# Altium footprint library Ceramic Capacitors.PcbLib: 8 footprints
Each footprint in its own frame and in the unit in brackets; x right, y up, seen from the top. Pads: shape width x height; smd on the part's side, far side on the other; paste and mask are expansions set on the pad; w line width, h text height; cw(c..) or ccw(c..) is an arc to the next point about the centre after c.
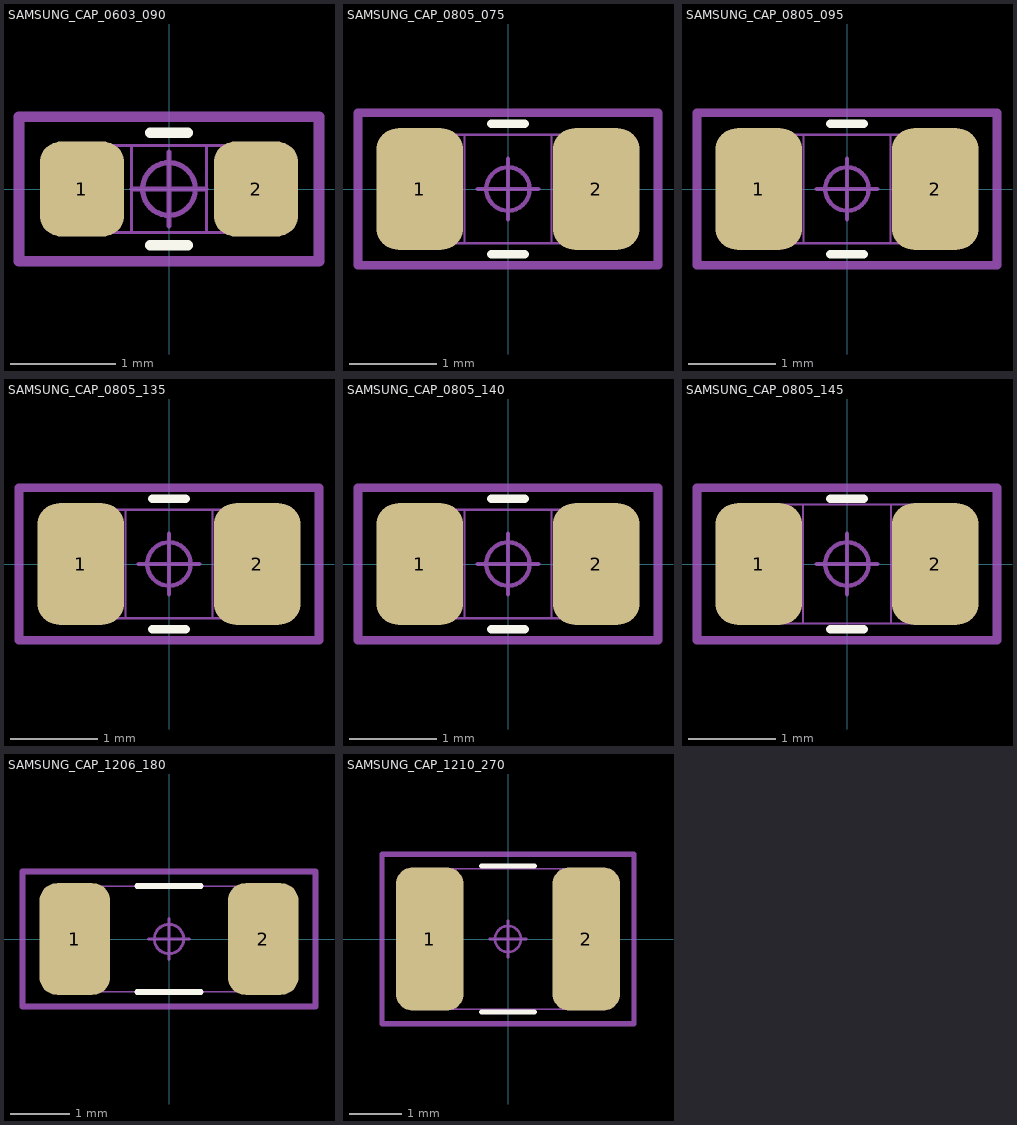
[diagram p0: the footprints below, top view; thin cyan lines are the x and y axes]

## SAMSUNG_CAP_0603_090 [mm]
pads (2):
  rrect50% 0.8x0.9 smd paste+0 mask+0.04: 1(-0.825,0) 2(0.825,0)
Top Overlay:
  lines w0.1: -0.178,-0.533 0.178,-0.533 ; -0.178,0.533 0.178,0.533
Mechanical 13:
  lines w0.025: -0.8,-0.412 0.8,-0.412 ; -0.8,-0.401 -0.8,0.412 0.8,0.412 0.8,-0.401 ; -0.356,-0.406 -0.356,0.406 ; 0.356,-0.406 0.356,0.406
Mechanical 15:
  circle w0.05: c0,0 r0.25
  lines w0.05: -0.35,0 0.35,0 ; 0,-0.35 0,0.35
  lines w0.1: -1.422,-0.686 -1.422,0.686 1.422,0.686 1.422,-0.686 -1.422,-0.686
3D body "CAP 0603.STEP": height 0.81, standoff -0.01, extent -0.8,-0.412 0.8,0.412

## SAMSUNG_CAP_0805_075 [mm]
pads (2):
  rrect50% 1x1.4 smd paste+0 mask+0.04: 1(-1.016,0) 2(1.016,0)
Top Overlay:
  lines w0.1: -0.192,-0.752 0.192,-0.752 ; -0.192,0.752 0.192,0.752
Mechanical 13:
  lines w0.025: -1,-0.625 -1,0.625 ; -1,-0.625 -0.5,-0.625 -0.5,0.625 -1,0.625 ; -1,-0.625 1,-0.625 ; -1,-0.625 -1,0.625 ; -1,0.625 1,0.625 ; 1,-0.625 0.5,-0.625 0.5,0.625 1,0.625 ; 1,-0.625 1,0.625 ; 1,-0.625 1,0.625
Mechanical 15:
  circle w0.05: c0,0 r0.25
  lines w0.05: -0.35,0 0.35,0 ; 0,-0.35 0,0.35
  lines w0.1: -1.727,-0.879 -1.727,0.879 1.727,0.879 1.727,-0.879 -1.727,-0.879
3D body "CAP_0805_075.step": height 0.76, standoff -0.01, extent -1,-0.639 1,0.635

## SAMSUNG_CAP_0805_095 [mm]
pads (2):
  rrect50% 1x1.4 smd paste+0 mask+0.04: 1(-1.016,0) 2(1.016,0)
Top Overlay:
  lines w0.1: -0.192,-0.752 0.192,-0.752 ; -0.192,0.752 0.192,0.752
Mechanical 13:
  lines w0.025: -1,-0.625 -1,0.625 ; -1,-0.625 1,-0.625 ; -1,-0.625 -0.5,-0.625 -0.5,0.625 -1,0.625 ; -1,-0.625 -1,0.625 ; -1,0.625 1,0.625 ; 1,-0.625 1,0.625 ; 1,-0.625 1,0.625 ; 1,-0.625 0.5,-0.625 0.5,0.625 1,0.625
Mechanical 15:
  circle w0.05: c0,0 r0.25
  lines w0.05: -0.35,0 0.35,0 ; 0,-0.35 0,0.35
  lines w0.1: -1.727,-0.879 1.727,-0.879 1.727,0.879 -1.727,0.879 -1.727,-0.879
3D body "CAP_0805_095.step": height 0.96, standoff -0.01, extent -1,-0.635 1,0.639

## SAMSUNG_CAP_0805_135 [mm]
pads (2):
  rrect50% 1x1.4 smd paste+0 mask+0.04: 1(-1.016,0) 2(1.016,0)
Top Overlay:
  lines w0.1: -0.192,-0.752 0.192,-0.752 ; -0.192,0.752 0.192,0.752
Mechanical 13:
  lines w0.025: -1,-0.625 -1,0.625 ; -1,-0.625 1,-0.625 ; -1,-0.625 -0.5,-0.625 -0.5,0.625 -1,0.625 ; -1,-0.625 -1,0.625 ; -1,0.625 1,0.625 ; 1,-0.625 1,0.625 ; 1,-0.625 1,0.625 ; 1,-0.625 0.5,-0.625 0.5,0.625 1,0.625
Mechanical 15:
  circle w0.05: c0,0 r0.25
  lines w0.05: -0.35,0 0.35,0 ; 0,-0.35 0,0.35
  lines w0.1: -1.727,-0.879 1.727,-0.879 1.727,0.879 -1.727,0.879 -1.727,-0.879
3D body "CAP_0805_135.step": height 1.36, standoff -0.01, extent -1,-0.639 1,0.635

## SAMSUNG_CAP_0805_140 [mm]
pads (2):
  rrect50% 1x1.4 smd paste+0 mask+0.04: 1(-1.016,0) 2(1.016,0)
Top Overlay:
  lines w0.1: -0.192,-0.752 0.192,-0.752 ; -0.192,0.752 0.192,0.752
Mechanical 13:
  lines w0.025: -1,-0.625 -1,0.625 ; -1,-0.625 1,-0.625 ; -1,-0.625 -0.5,-0.625 -0.5,0.625 -1,0.625 ; -1,-0.625 -1,0.625 ; -1,0.625 1,0.625 ; 1,-0.625 1,0.625 ; 1,-0.625 1,0.625 ; 1,-0.625 0.5,-0.625 0.5,0.625 1,0.625
Mechanical 15:
  circle w0.05: c0,0 r0.25
  lines w0.05: -0.35,0 0.35,0 ; 0,-0.35 0,0.35
  lines w0.1: -1.727,-0.879 1.727,-0.879 1.727,0.879 -1.727,0.879 -1.727,-0.879
3D body "CAP_0805_140.step": height 1.41, standoff -0.01, extent -1,-0.639 1,0.635

## SAMSUNG_CAP_0805_145 [mm]
pads (2):
  rrect50% 1x1.4 smd paste+0 mask+0.04: 1(-1.016,0) 2(1.016,0)
Top Overlay:
  lines w0.1: -0.192,-0.752 0.192,-0.752 ; -0.192,0.752 0.192,0.752
Mechanical 13:
  lines w0.025: -0.508,-0.686 -0.508,0.686 ; 0.508,-0.686 0.508,0.686 ; -0.991,-0.686 1.009,-0.686 1.009,0.686 -0.991,0.686 -0.991,-0.686
Mechanical 15:
  circle w0.05: c0,0 r0.25
  lines w0.05: -0.35,0 0.35,0 ; 0,-0.35 0,0.35
  lines w0.1: -1.727,-0.879 1.727,-0.879 1.727,0.879 -1.727,0.879 -1.727,-0.879
3D body "CL21A106KAYNNNE.step": height 1.4, standoff 0.15, extent -1,-0.673 1,0.677

## SAMSUNG_CAP_1206_180 [mm]
pads (2):
  rrect50% 1.2x1.9 smd mask+0.04: 1(-1.6,0) 2(1.6,0)
Top Overlay:
  lines w0.1: -0.54,-0.9 0.54,-0.9 ; -0.54,0.9 0.54,0.9
Mechanical 13:
  lines w0.025: -1.7,-0.9 -1.7,0.9 1.7,0.9 1.7,-0.9 -1.7,-0.9
Mechanical 15:
  circle w0.05: c0,0 r0.25
  lines w0.05: -0.35,0 0.35,0 ; 0,-0.35 0,0.35
  lines w0.1: -2.489,-1.15 -2.489,1.15 2.489,1.15 2.489,-1.15 -2.489,-1.15
3D body "CL31B106KAHNNN1.step": height 1.8, standoff 0, extent -1.673,-0.9 1.727,0.9

## SAMSUNG_CAP_1210_270 [mm]
pads (2):
  rrect50% 1.3x2.75 smd paste+0 mask+0.04: 1(-1.5,0) 2(1.5,0)
Top Overlay:
  lines w0.1: -0.508,-1.397 0.508,-1.397 ; -0.508,1.397 0.508,1.397
Mechanical 13:
  lines w0.025: -1,-1.346 -1,1.346 ; 1,-1.346 1,1.346 ; -1.753,-1.346 -1.753,1.346 1.753,1.346 1.753,-1.346 -1.753,-1.346
Mechanical 15:
  circle w0.05: c0,0 r0.25
  lines w0.05: -0.35,0 0.35,0 ; 0,-0.35 0,0.35
  lines w0.1: -2.413,-1.626 2.413,-1.626 2.413,1.626 -2.413,1.626 -2.413,-1.626
3D body "CL32A476KOJNN.stp": height 2.7, standoff 0, extent -1.75,-1.346 1.75,1.354